# Altium integrated library Capacitors.IntLib: 12 symbols
Pins are listed as number, name and electrical type; pins without a type are passive.

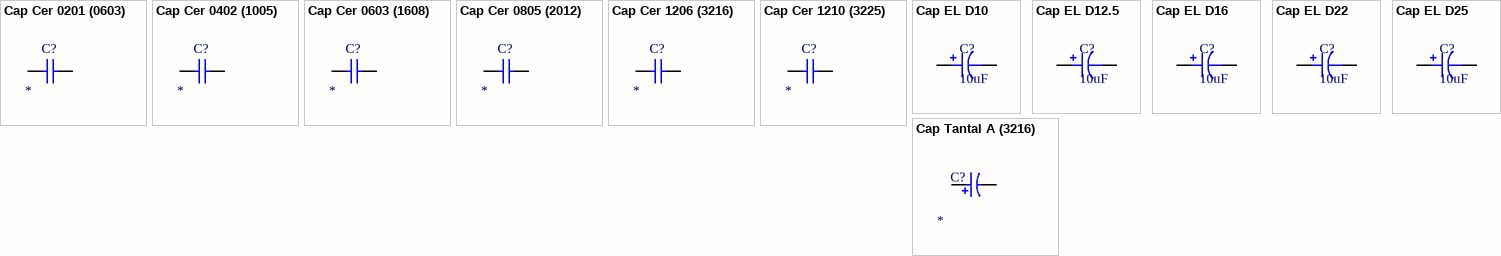
[diagram p0: symbols Cap Cer 0201 (0603) to Cap Tantal A (3216)]

## Cap Cer 0201 (0603)
designator C?
SMD Capacitor Ceramic; Case-EIA: 0201; Case-Metric: 0603; Technology: SMT; Type: Ceramic; Value: *
footprint CAP 0201 (0603) M (Chip Capacitor, Body 0.6x0.3mm, Height 0.33mm, IPC Low Density)
footprint CAP 0201 (0603) L (Chip Capacitor, Body 0.6x0.3mm, Height 0.33mm, IPC High Density)
footprint CAP 0201 (0603) N (Chip Capacitor, Body 0.6x0.3mm, Height 0.33mm, IPC Medium Density)
pins: 1, 2
1 alternate drawing of the same symbol

## Cap Cer 0402 (1005)
designator C?
SMD Capacitor Ceramic; Case-EIA: 0402; Case-Metric: 1005; Technology: SMT; Type: Ceramic; Value: *
footprint CAP 0402 (1005) M (Chip Capacitor, Body 1.0x0.5mm, Height 0.6mm, IPC Low Density)
footprint CAP 0402 (1005) N (Chip Capacitor, Body 1.0x0.5mm, Height 0.6mm, IPC Medium Density)
footprint CAP 0402 (1005) L (Chip Capacitor, Body 1.0x0.5mm, Height 0.6mm, IPC High Density)
pins: 1, 2
1 alternate drawing of the same symbol

## Cap Cer 0603 (1608)
designator C?
SMD Capacitor Ceramic; Case-EIA: 0603; Case-Metric: 1608; Technology: SMT; Type: Ceramic; Value: *
footprint CAP 0603 (1608) L (Chip Capacitor, Body 1.6x0.8mm, Height 1.0mm, IPC High Density)
footprint CAP 0603 (1608) N (Chip Capacitor, Body 1.6x0.8mm, Height 1.0mm, IPC Medium Density)
footprint CAP 0603 (1608) M (Chip Capacitor, Body 1.6x0.8mm, Height 1.0mm, IPC Low Density)
pins: 1, 2
1 alternate drawing of the same symbol

## Cap Cer 0805 (2012)
designator C?
SMD Capacitor Ceramic; Case-EIA: 0805; Case-Metric: 2012; Technology: SMT; Type: Ceramic; Value: *
footprint CAP 0805 (2012) M (Chip Capacitor, Body 2.0x1.2mm, Height 0.75mm, IPC Low Density)
footprint CAP 0805 (2012) N (Chip Capacitor, Body 2.0x1.2mm, Height 0.75mm, IPC Medium Density)
footprint CAP 0805 (2012) L (Chip Capacitor, Body 2.0x1.2mm, Height 0.75mm, IPC High Density)
pins: 1, 2
1 alternate drawing of the same symbol

## Cap Cer 1206 (3216)
designator C?
SMD Capacitor Ceramic; Case-EIA: 1206; Case-Metric: 3216; Technology: SMT; Type: Ceramic; Value: *
footprint CAP 1206 (3216) L (Chip Capacitor, Body 3.2x1.6mm, Height 1.7mm, IPC High Density)
footprint CAP 1206 (3216) N (Chip Capacitor, Body 3.2x1.6mm, Height 1.7mm, IPC Medium Density)
footprint CAP 1206 (3216) M (Chip Capacitor, Body 3.2x1.6mm, Height 1.7mm, IPC Low Density)
pins: 1, 2
1 alternate drawing of the same symbol

## Cap Cer 1210 (3225)
designator C?
SMD Capacitor Ceramic; Case-EIA: 1210; Case-Metric: 3225; Technology: SMT; Type: Ceramic; Value: *
footprint CAP 1210 (3225) N (Chip Capacitor, Body 3.2x2.5mm, Height 1.05mm, IPC Medium Density)
footprint CAP 1210 (3225) L (Chip Capacitor, Body 3.2x2.5mm, Height 1.05mm, IPC High Density)
footprint CAP 1210 (3225) M (Chip Capacitor, Body 3.2x2.5mm, Height 1.05mm, IPC Low Density)
pins: 1, 2
1 alternate drawing of the same symbol

## Cap EL D10
designator C?, comment 10uF
SMT Polarised Capacitor; Value: 10uF
footprint Model Name (Model Description)
footprint Model Name (Model Description)
footprint CAP AL TH D10 L5 H14.5 (10MM Diameter, 5MM Lead Spacing Aluminium Capacitor)
footprint CAP AL TH D10 L5 H12.5 (10MM Diameter, 5MM Lead Spacing Aluminium Capacitor)
footprint CAP AL TH D10 L5 H17.5 (10MM Diameter, 5MM Lead Spacing Aluminium Capacitor)
footprint CAP AL TH D10 L5 H22 (10MM Diameter, 5MM Lead Spacing Aluminium Capacitor)
footprint CAP AL TH D10 L5 H30 (10MM Diameter, 5MM Lead Spacing Aluminium Capacitor)
pins: 1, 2

## Cap EL D12.5
designator C?, comment 10uF
SMT Polarised Capacitor; Value: 10uF
footprint CAP AL TH D12.5 L5 H14 (12.5MM Diameter, 5MM Lead Spacing Aluminium Capacitor)
footprint CAP AL TH D12.5 L5 H15 (12.5MM Diameter, 5MM Lead Spacing Aluminium Capacitor)
footprint CAP AL TH D12.5 L5 H16.5 (12.5MM Diameter, 5MM Lead Spacing Aluminium Capacitor)
footprint CAP AL TH D12.5 L5 H17.5 (12.5MM Diameter, 5MM Lead Spacing Aluminium Capacitor)
footprint CAP AL TH D12.5 L5 H20 (12.5MM Diameter, 5MM Lead Spacing Aluminium Capacitor)
footprint CAP AL TH D12.5 L5 H21.5 (12.5MM Diameter, 5MM Lead Spacing Aluminium Capacitor)
footprint CAP AL TH D12.5 L5 H22 (12.5MM Diameter, 5MM Lead Spacing Aluminium Capacitor)
footprint CAP AL TH D12.5 L5 H25 (12.5MM Diameter, 5MM Lead Spacing Aluminium Capacitor)
footprint CAP AL TH D12.5 L5 H26.5 (12.5MM Diameter, 5MM Lead Spacing Aluminium Capacitor)
footprint CAP AL TH D12.5 L5 H27 (12.5MM Diameter, 5MM Lead Spacing Aluminium Capacitor)
footprint CAP AL TH D12.5 L5 H35.5 (12.5MM Diameter, 5MM Lead Spacing Aluminium Capacitor)
pins: 1, 2

## Cap EL D16
designator C?, comment 10uF
SMT Polarised Capacitor; Value: 10uF
footprint CAP AL TH D16 L7.5 H20 (16MM Diameter, 7.5MM Lead Spacing Aluminium Capacitor)
footprint CAP AL TH D16 L7.5 H22 (16MM Diameter, 7.5MM Lead Spacing Aluminium Capacitor)
footprint CAP AL TH D16 L7.5 H26.5 (16MM Diameter, 7.5MM Lead Spacing Aluminium Capacitor)
footprint CAP AL TH D16 L7.5 H16.5 (16MM Diameter, 7.5MM Lead Spacing Aluminium Capacitor)
footprint CAP AL TH D16 L7.5 H27 (16MM Diameter, 7.5MM Lead Spacing Aluminium Capacitor)
footprint CAP AL TH D16 L7.5 H33.5 (16MM Diameter, 7.5MM Lead Spacing Aluminium Capacitor)
footprint CAP AL TH D16 L7.5 H37 (16MM Diameter, 7.5MM Lead Spacing Aluminium Capacitor)
pins: 1, 2

## Cap EL D22
designator C?, comment 10uF
SMT Polarised Capacitor; Value: 10uF
footprint CAP AL TH D22 L10 H14.5 (16MM Diameter, 7.5MM Lead Spacing Aluminium Capacitor)
footprint CAP AL TH D22 L10 H33 (16MM Diameter, 7.5MM Lead Spacing Aluminium Capacitor)
footprint CAP AL TH D22 L10 H43 (16MM Diameter, 7.5MM Lead Spacing Aluminium Capacitor)
footprint CAP AL TH D22 L10 H53 (16MM Diameter, 7.5MM Lead Spacing Aluminium Capacitor)
pins: 1, 2

## Cap EL D25
designator C?, comment 10uF
SMT Polarised Capacitor; Value: 10uF
footprint CAP AL TH D25 L12.5 H14.5 (16MM Diameter, 7.5MM Lead Spacing Aluminium Capacitor)
footprint CAP AL TH D25 L12.5 H32 (16MM Diameter, 7.5MM Lead Spacing Aluminium Capacitor)
footprint CAP AL TH D25 L12.5 H42 (16MM Diameter, 7.5MM Lead Spacing Aluminium Capacitor)
footprint CAP AL TH D25 L12.5 H52 (16MM Diameter, 7.5MM Lead Spacing Aluminium Capacitor)
pins: 1, 2

## Cap Tantal A (3216)
designator C?
SMD Capacitor Tantalum; Case-EIA: 1206; Case-Metric: 3216; Technology: Tantalum; Type: Tantalum; Value: *
footprint CAP tantal A (3216) L (Chip Capacitor, Body 3.2x1.6mm, Height 1.7mm, IPC High Density)
footprint CAP tantal A (3216) N (Chip Capacitor, Body 3.2x1.6mm, Height 1.7mm, IPC Medium Density)
footprint CAP tantal A (3216) M (Chip Capacitor, Body 3.2x1.6mm, Height 1.7mm, IPC Low Density)
pins: A, K
1 alternate drawing of the same symbol